# Altium footprint library 400150.PcbLib: 48 footprints (part 1 of 3)
Each footprint in its own frame and in the unit in brackets; x right, y up, seen from the top. Pads: shape width x height; smd on the part's side, far side on the other; paste and mask are expansions set on the pad; w line width, h text height; cw(c..) or ccw(c..) is an arc to the next point about the centre after c.
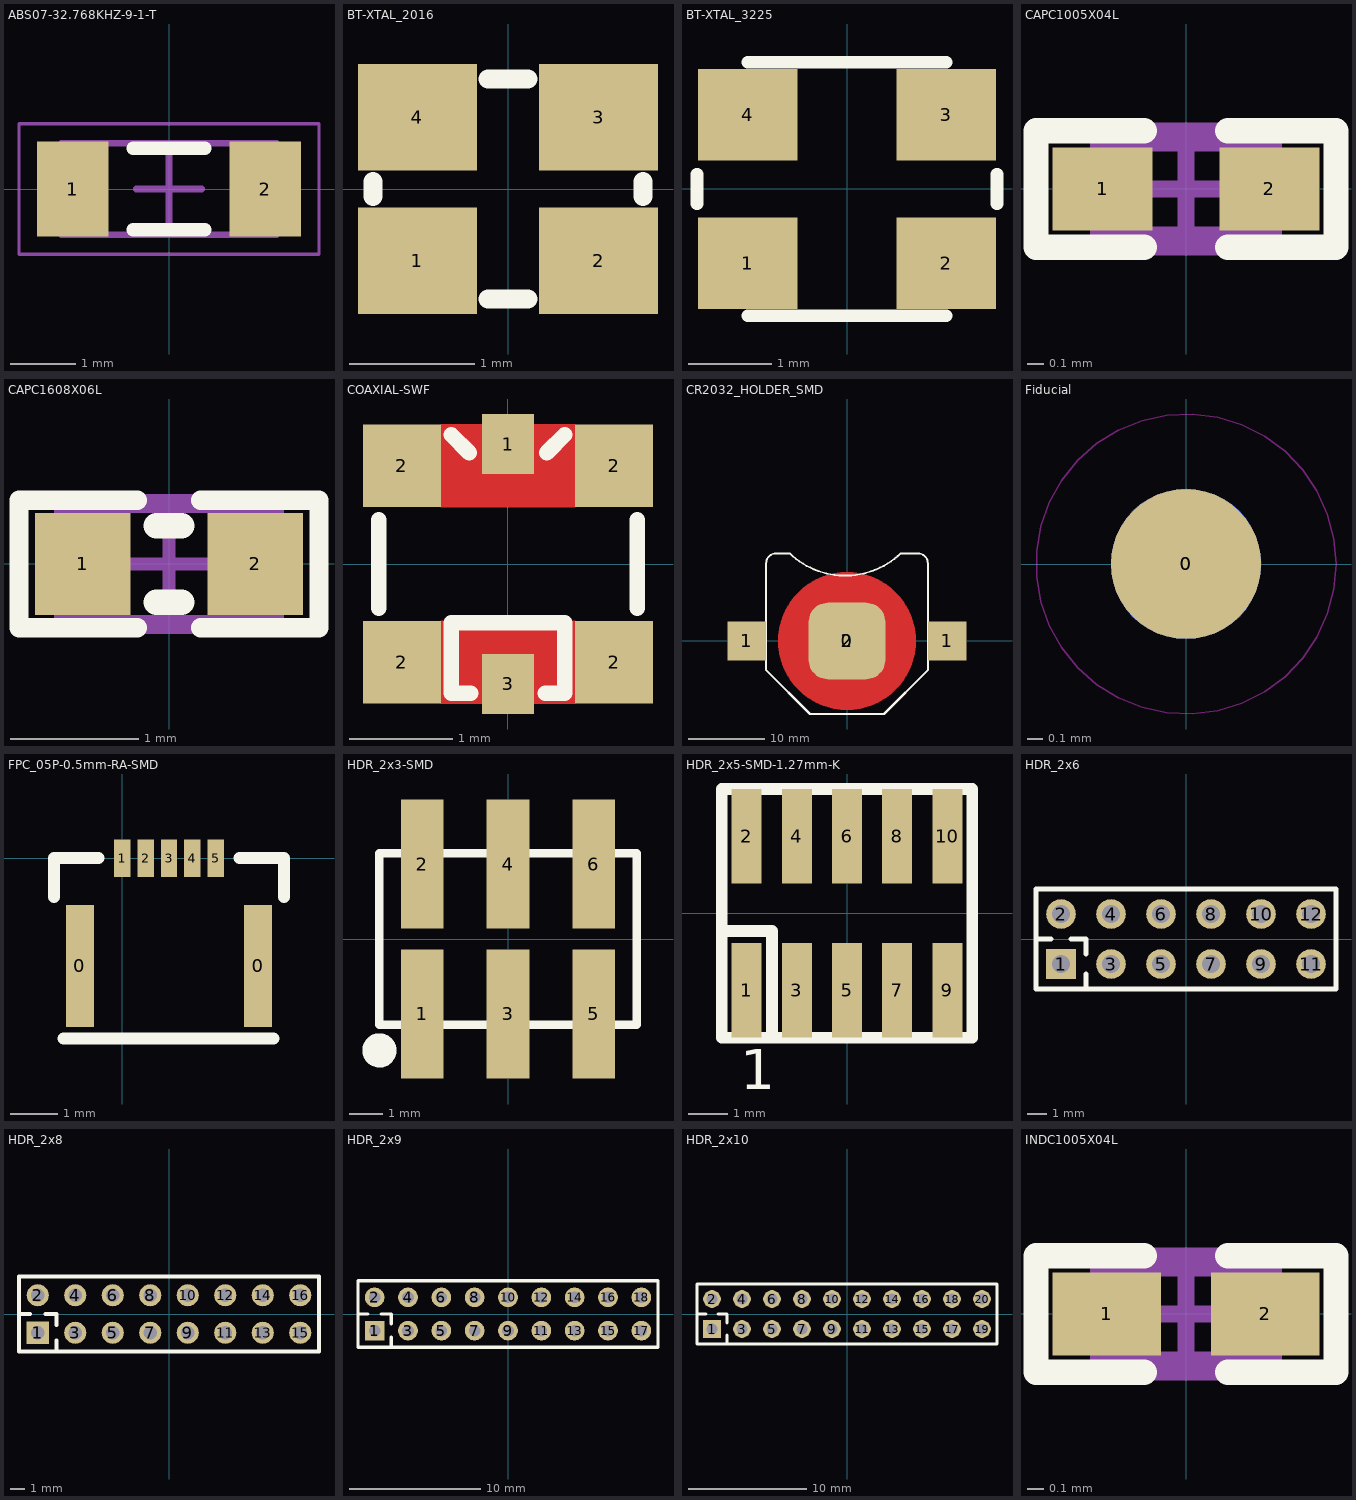
[diagram p0: the footprints below, top view; thin cyan lines are the x and y axes]

## ABS07-32.768KHZ-9-1-T [mm] "Crystals CRYSTAL 32.7680KHZ 6PF SMD"
height 0.9
pads (2):
  rect 1.1x1.45 smd: 1(-1.475,0) 2(1.475,0)
Top Overlay:
  lines w0.2: -0.55,-0.625 0.55,-0.625 ; -0.55,0.625 0.55,0.625
Mechanical 13:
  lines w0.1: -1.65,-0.7 1.65,-0.7 1.65,0.7 -1.65,0.7 -1.65,-0.7
Mechanical 15:
  lines w0.05: -2.3,-1 2.3,-1 2.3,1 -2.3,1 -2.3,-1
  lines w0.1: -0.5,0 0.5,0 ; 0,-0.5 0,0.5
3D body: height 0.9, standoff 0, extent 1.05,-0.7 1.65,0.7
3D body: height 0.9, standoff 0, extent -1.65,-0.7 -1.05,0.7
3D body: height 0.9, standoff 0, extent -1.05,-0.7 1.05,0.7

## BT-XTAL_2016 [mm]
pads (4):
  rect 0.95x0.85 smd: 1(-0.725,-0.575) 2(0.725,-0.575) 3(0.725,0.575) 4(-0.725,0.575)
Top Overlay:
  lines w0.152: -1.08,-0.06 -1.08,0.06 ; -0.16,-0.88 0.16,-0.88 ; -0.16,0.88 0.16,0.88 ; 1.08,-0.06 1.08,0.06
3D body "User Library-GeyerElectronics_KX5.step": height 0.56, standoff 0, extent -1.05,-0.85 1.05,0.85
3D body: height 0.56, standoff 0.15, extent -0.7,-0.65 0.7,0.65

## BT-XTAL_3225 [mm]
pads (4):
  rect 1.2x1.1 smd: 1(-1.194,-0.89) 2(1.194,-0.89) 3(1.194,0.891) 4(-1.194,0.891)
Top Overlay:
  lines w0.152: -1.803,-0.178 -1.803,0.178 ; -1.194,-1.524 1.194,-1.524 ; -1.194,1.524 1.194,1.524 ; 1.803,-0.178 1.803,0.178
3D body "User Library-GeyerElectronics_KX7.step": height 0.81, standoff 0, extent -1.6,-1.25 1.614,1.25
3D body: height 0.81, standoff 0.15, extent -1.4,-1.05 1.4,1.05

## CAPC1005X04L [mm]
pads (2):
  rect 0.6x0.5 smd: 1(-0.5,0) 2(0.5,0)
Top Overlay:
  lines w0.152: -0.25,-0.35 -0.9,-0.35 -0.9,0.35 -0.25,0.35 ; 0.25,-0.35 0.9,-0.35 0.9,0.35 0.25,0.35
Mechanical 13:
  lines w0.1: -0.525,-0.275 0.525,-0.275 0.525,0.275 -0.525,0.275 -0.525,-0.275
Mechanical 15:
  lines w0.1: -0.275,0 0.275,0 ; 0,-0.275 0,0.275 ; -0.9,-0.35 -0.9,0.35 0.9,0.35 0.9,-0.35 -0.9,-0.35
3D body "User Library-0402(1005M) Cap.step": height 0.5, standoff -0.01, extent -0.508,-0.254 0.508,0.254

## CAPC1608X06L [mm]
pads (2):
  rect 0.75x0.8 smd: 1(-0.675,0) 2(0.675,0)
Top Overlay:
  lines w0.152: -0.25,-0.5 -1.175,-0.5 -1.175,0.5 -0.25,0.5 ; 0.25,-0.5 1.175,-0.5 1.175,0.5 0.25,0.5
  lines w0.2: -0.1,-0.3 0.1,-0.3 ; -0.1,0.3 0.1,0.3
Mechanical 13:
  lines w0.1: -0.85,-0.45 -0.85,0.45 0.85,0.45 0.85,-0.45 -0.85,-0.45
Mechanical 15:
  lines w0.1: -0.45,0 0.45,0 ; 0,-0.45 0,0.45 ; -1.175,-0.5 1.175,-0.5 1.175,0.5 -1.175,0.5 -1.175,-0.5
3D body "User Library-Chip Capacitor 0603.step": height 0.8, standoff 0, extent -0.8,-0.43 0.8,0.43

## COAXIAL-SWF [mm]
pads (6):
  rect 0.5x0.58 smd: 1(0,1.16) 3(0,-1.16)
  rect 0.75x0.8 smd: 2(-1.025,-0.95) 2(-1.025,0.95) 2(1.025,-0.95) 2(1.025,0.95)
Top Layer:
  pour cut-out: 0.65,-0.55 -0.65,-0.55 -0.65,-1.35 0.65,-1.35
  pour cut-out: -0.65,0.55 0.65,0.55 0.65,1.35 -0.65,1.35
Top Overlay:
  lines w0.15: -1.25,-0.43 -1.25,0.43 ; -0.55,1.25 -0.375,1.075 ; -0.36,-1.25 -0.55,-1.25 -0.55,-0.57 0.55,-0.57 0.55,-1.25 0.36,-1.25 ; 0.375,1.075 0.55,1.25 ; 1.25,-0.43 1.25,0.43

## CR2032_HOLDER_SMD [mm]
pads (4):
  round 18 on Top Solder paste+0: 0(0,0)
  rect 5.08x5.08 smd: 1(-13.081,0) 1(13.081,0)
  rrect50% 10x10 smd paste-9: 2(0,0)
Top Layer:
  circle w5: c0,0 r6.5
Top Overlay:
  lines w0.254: -4.445,-9.525 4.826,-9.525 10.541,-3.81 10.541,10.16 ccw(c9.271,10.16) 9.271,11.43 6.985,11.43 ; -4.191,-9.525 -4.826,-9.525 -10.541,-3.81 -10.541,10.16 cw(c-9.271,10.16) -9.271,11.43 -7.493,11.43 ccw(c-0.233,19.072) 7.027,11.43
3D body "User Library-CR2032-3002.step": height 3.96, standoff 0, extent -15.367,-10.274 15.367,9.779

## Fiducial [mm]
pads (2):
  round 1 smd paste-10 mask+0.5: 0(0,0)
  round 1 smd far side paste-10 mask+0.5: 0(0,0)
Keep-Out Layer:
  circle w0.01: c0,0 r1

## FPC_05P-0.5mm-RA-SMD [mm]
pads (7):
  rect 0.6x2.6 smd: 0(-0.9,-2.3) 0(2.9,-2.3)
  rect 0.35x0.8 smd: 1(0,0) 2(0.5,0) 3(1,0) 4(1.5,0) 5(2,0)
Top Overlay:
  lines w0.254: -1.45,-0.825 -1.45,0 -0.5,0 ; -1.25,-3.85 3.225,-3.85 ; 2.5,0 3.45,0 3.45,-0.825
3D body: height 2.05, standoff 0, extent -1.45,-3.85 3.45,0

## HDR_2x3-SMD [mil]
pads (6):
  rect 50x150 smd: 1(-100,-87.5) 2(-100,87.5) 3(0,-87.5) 4(0,87.5) 5(100,-87.5) 6(100,87.5)
Top Overlay:
  circle w20: c-150,-130 r10
  lines w10: -150,-100 150,-100 150,100 -150,100 -150,-100
3D body "pin_header_a-sl254-dg-g06mp1.stp": height 382.03, standoff -1.57, extent -149.99,-147.63 150.01,147.64

## HDR_2x5-SMD-1.27mm-K [mm]
pads (10):
  rect 0.76x2.4 smd: 1(-2.54,-1.95) 2(-2.54,1.95) 3(-1.27,-1.95) 4(-1.27,1.95) 5(0,-1.95) 6(0,1.95) 7(1.27,-1.95) 8(1.27,1.95) 9(2.54,-1.95) 10(2.54,1.95)
Top Overlay:
  lines w0.3: -3.175,-0.45 -1.9,-0.45 -1.9,-3.15 ; -3.175,-3.15 -3.175,3.15 3.175,3.15 3.175,-3.15 -3.175,-3.15
  text "1" at -2.7,-4.45 h1.02
3D body "Samtec-FTSH-105-01-F-DV-K.step": height 6.11, standoff -0.01, extent -3.137,-2.921 3.137,2.921

## HDR_2x6 [mm]
pads (12):
  rect 1.5x1.5 hole 0.9: 1(-6.35,-1.27)
  round 1.5 hole 0.9: 2(-6.35,1.27) 3(-3.81,-1.27) 4(-3.81,1.27) 5(-1.27,-1.27) 6(-1.27,1.27) 7(1.27,-1.27) 8(1.27,1.27) 9(3.81,-1.27) 10(3.81,1.27) 11(6.35,-1.27) 12(6.35,1.27)
Top Overlay:
  lines w0.254: -7.62,0 -6.858,0 ; -5.842,0 -5.08,0 -5.08,-0.762 ; -5.08,-2.54 -5.08,-1.778 ; -7.62,-2.54 7.62,-2.54 7.62,2.54 -7.62,2.54 -7.62,-2.54

## HDR_2x8 [mm]
pads (16):
  rect 1.5x1.5 hole 0.9: 1(-8.89,-1.27)
  round 1.5 hole 0.9: 2(-8.89,1.27) 3(-6.35,-1.27) 4(-6.35,1.27) 5(-3.81,-1.27) 6(-3.81,1.27) 7(-1.27,-1.27) 8(-1.27,1.27) 9(1.27,-1.27) 10(1.27,1.27) 11(3.81,-1.27) 12(3.81,1.27) 13(6.35,-1.27) 14(6.35,1.27) 15(8.89,-1.27) 16(8.89,1.27)
Top Overlay:
  lines w0.254: -10.16,0 -9.398,0 ; -8.382,0 -7.62,0 -7.62,-0.762 ; -7.62,-2.54 -7.62,-1.778 ; -10.16,-2.54 -10.16,2.54 10.16,2.54 10.16,-2.54 -10.16,-2.54

## HDR_2x9 [mm]
pads (18):
  rect 1.5x1.5 hole 0.9: 1(-10.16,-1.27)
  round 1.5 hole 0.9: 2(-10.16,1.27) 3(-7.62,-1.27) 4(-7.62,1.27) 5(-5.08,-1.27) 6(-5.08,1.27) 7(-2.54,-1.27) 8(-2.54,1.27) 9(0,-1.27) 10(0,1.27) 11(2.54,-1.27) 12(2.54,1.27) 13(5.08,-1.27) 14(5.08,1.27) 15(7.62,-1.27) 16(7.62,1.27) 17(10.16,-1.27) 18(10.16,1.27)
Top Overlay:
  lines w0.254: -11.43,0 -10.668,0 ; -9.652,0 -8.89,0 -8.89,-0.762 ; -8.89,-2.54 -8.89,-1.778 ; -11.43,-2.54 -11.43,2.54 11.43,2.54 11.43,-2.54 -11.43,-2.54

## HDR_2x10 [mm]
pads (20):
  rect 1.5x1.5 hole 0.9: 1(-11.43,-1.27)
  round 1.5 hole 0.9: 2(-11.43,1.27) 3(-8.89,-1.27) 4(-8.89,1.27) 5(-6.35,-1.27) 6(-6.35,1.27) 7(-3.81,-1.27) 8(-3.81,1.27) 9(-1.27,-1.27) 10(-1.27,1.27) 11(1.27,-1.27) 12(1.27,1.27) 13(3.81,-1.27) 14(3.81,1.27) 15(6.35,-1.27) 16(6.35,1.27) 17(8.89,-1.27) 18(8.89,1.27) 19(11.43,-1.27) 20(11.43,1.27)
Top Overlay:
  lines w0.254: -12.7,0 -11.938,0 ; -10.922,0 -10.16,0 -10.16,-0.762 ; -10.16,-2.54 -10.16,-1.778 ; -12.7,-2.54 12.7,-2.54 12.7,2.54 -12.7,2.54 -12.7,-2.54

## INDC1005X04L [mm]
pads (2):
  rect 0.65x0.5 smd: 1(-0.475,0) 2(0.475,0)
Top Overlay:
  lines w0.152: -0.25,-0.35 -0.9,-0.35 -0.9,0.35 -0.25,0.35 ; 0.25,-0.35 0.9,-0.35 0.9,0.35 0.25,0.35
Mechanical 13:
  lines w0.1: -0.525,-0.275 -0.525,0.275 0.525,0.275 0.525,-0.275 -0.525,-0.275
Mechanical 15:
  lines w0.1: -0.275,0 0.275,0 ; 0,-0.275 0,0.275 ; -0.9,-0.35 -0.9,0.35 0.9,0.35 0.9,-0.35 -0.9,-0.35
3D body "User Library-Chip Inductor 0402.step": height 0.5, standoff 0, extent -0.5,-0.3 0.5,0.3